# Altium schematic symbol library Energy Metering.SchLib: 2 symbols
Pins are listed as number, name and electrical type; pins without a type are passive.

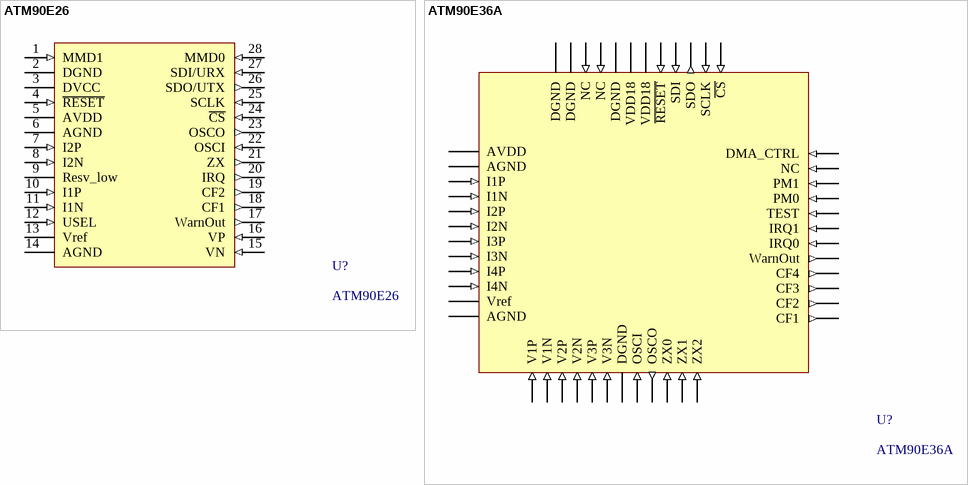
[diagram p0: symbols ATM90E26 to ATM90E36A]

## ATM90E26
designator U?
Single Phase Meter IC 28-SSOP 1.8V/3V; Manufacturer 1: Microchip Technology; Manufacturer 1 PN: ATM90E26-YU-R; ComponentLink1Description: Datasheet; ComponentLink1URL: http://ww1.microchip.com/downloads/en/DeviceDoc/Atmel-46002-SE-M90E26-Datasheet.pdf
footprint ATM90E26 (Single Phase Meter IC 28-SSOP 1.8V/3V)
pins: 1 MMD1 (in), 2 DGND (power), 3 DVCC (power), 4 ~{RESET} (in), 5 AVDD (power), 6 AGND (power), 7 I2P (in), 8 I2N (in), 9 Resv_low (power), 10 I1P (in), 11 I1N (in), 12 USEL (in), 13 Vref (power), 14 AGND (power), 15 VN (in), 16 VP (in), 17 WarnOut (out), 18 CF1 (out), 19 CF2 (out), 20 IRQ (out), 21 ZX (out), 22 OSCI (in), 23 OSCO (out), 24 ~{CS} (in), 25 SCLK (in), 26 SDO/UTX (out), 27 SDI/URX (in), 28 MMD0 (in)

## ATM90E36A
designator U?
3 Phase Meter IC 48-TQFP (7x7) 1.8V/3V, TRAY; Manufacturer 1: Microchip Technology; Manufacturer 1 PN: ATM90E36A-AU-Y; ComponentLink1Description: Datasheet; ComponentLink1URL: http://ww1.microchip.com/downloads/en/DeviceDoc/Atmel-46004-SE-M90E36A-Datasheet.pdf
footprint ATM90E36A (3 Phase Meter IC 48-TQFP (7x7) IND TEMP, 1.8V/3V, TRAY)
pins: 1 AVDD (power), 2 AGND (power), 3 I1P (in), 4 I1N (in), 5 I2P (in), 6 I2N (in), 7 I3P (in), 8 I3N (in), 9 I4P (in), 10 I4N (in), 11 Vref (power), 12 AGND (power), 13 V1P (in), 14 V1N (in), 15 V2P (in), 16 V2N (in), 17 V3P (in), 18 V3N (in), 19 DGND (power), 20 OSCI (in), 21 OSCO (out), 22 ZX0 (in), 23 ZX1 (in), 24 ZX2 (in), 25 CF1 (out), 26 CF2 (out), 27 CF3 (out), 28 CF4 (out), 29 WarnOut (out), 30 IRQ0 (in), 31 IRQ1 (in), 32 TEST (in), 33 PM0 (in), 34 PM1 (in), 35 NC (in), 36 DMA_CTRL (in), 37 ~{CS} (in), 38 SCLK (in), 39 SDO (out), 40 SDI (in), 41 ~{RESET} (in), 42 VDD18 (power), 43 VDD18 (power), 44 DGND (power), 45 NC (in), 46 NC (in), 47 DGND (power), 48 DGND (power)